# EAGLE library part PIN-HEADER-MICRO-2-5-SMD (library ewheel32)
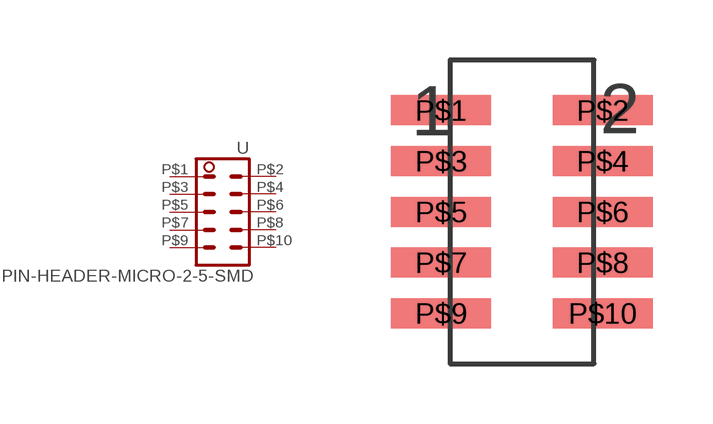
[diagram p6: symbol with the pads of PIN-HEADER-NICRO-2-5-SMD; footprint PIN-HEADER-NICRO-2-5-SMD]

Designator prefix -

## PIN-HEADER-MICRO-2-5-SMD  [PIN-HEADER-NICRO-2-5-SMD]
P$1  1  pas
P$2  2  pas
P$3  3  pas
P$4  4  pas
P$5  5  pas
P$6  6  pas
P$7  7  pas
P$8  8  pas
P$9  9  pas
P$10  10  pas

## Footprint PIN-HEADER-NICRO-2-5-SMD (pad centres in mm)
smd 2.5 x 0.75: P$1 -2.02,2.54; P$2 2.02,2.54; P$3 -2.02,1.27; P$4 2.02,1.27; P$5 -2.02,0; P$6 2.02,0; P$7 -2.02,-1.27; P$8 2.02,-1.27; P$9 -2.02,-2.54; P$10 2.02,-2.54